# Altium footprint library WLCSP$81N0.40P9X9_4.4X3.8X0.6-81_81.PcbLib: 1 footprints
Each footprint in its own frame and in the unit in brackets; x right, y up, seen from the top. Pads: shape width x height; smd on the part's side, far side on the other; paste and mask are expansions set on the pad; w line width, h text height; cw(c..) or ccw(c..) is an arc to the next point about the centre after c.
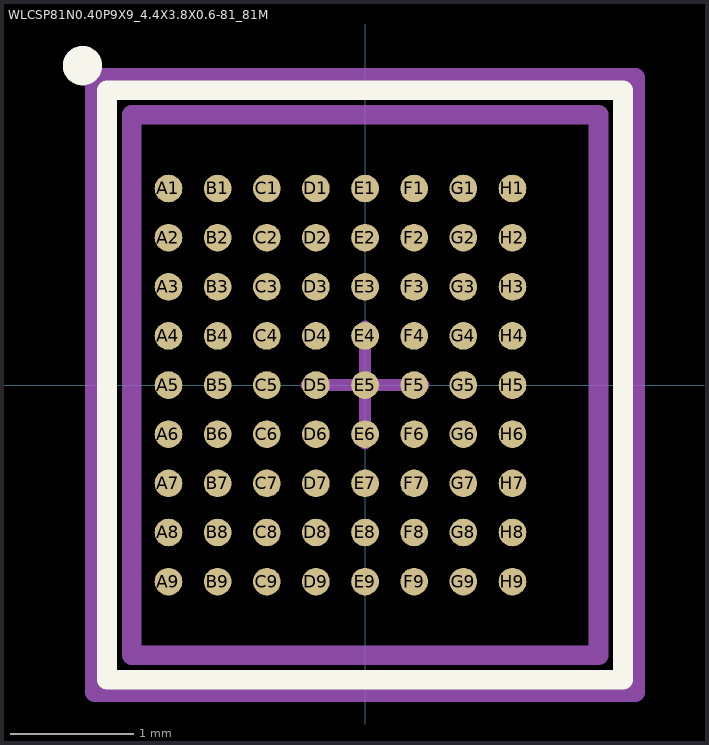
[diagram p0: the footprint, top view; thin cyan lines are the x and y axes]

## WLCSP81N0.40P9X9_4.4X3.8X0.6-81_81M [mm] "WLCSP 81 3.8x4.4x0.6 P 0.4 mm"
height 0.6
pads (72):
  round 0.225 smd: A1(-1.6,1.6) A2(-1.6,1.2) A3(-1.6,0.8) A4(-1.6,0.4) A5(-1.6,0) A6(-1.6,-0.4) A7(-1.6,-0.8) A8(-1.6,-1.2) A9(-1.6,-1.6) B1(-1.2,1.6) B2(-1.2,1.2) B3(-1.2,0.8) B4(-1.2,0.4) B5(-1.2,0) B6(-1.2,-0.4) B7(-1.2,-0.8) B8(-1.2,-1.2) B9(-1.2,-1.6) C1(-0.8,1.6) C2(-0.8,1.2) C3(-0.8,0.8) C4(-0.8,0.4) C5(-0.8,0) C6(-0.8,-0.4) C7(-0.8,-0.8) C8(-0.8,-1.2) C9(-0.8,-1.6) D1(-0.4,1.6) D2(-0.4,1.2) D3(-0.4,0.8) D4(-0.4,0.4) D5(-0.4,0) D6(-0.4,-0.4) D7(-0.4,-0.8) D8(-0.4,-1.2) D9(-0.4,-1.6) E1(0,1.6) E2(0,1.2) E3(0,0.8) E4(0,0.4) E5(0,0) E6(0,-0.4) E7(0,-0.8) E8(0,-1.2) E9(0,-1.6) F1(0.4,1.6) F2(0.4,1.2) F3(0.4,0.8) F4(0.4,0.4) F5(0.4,0) F6(0.4,-0.4) F7(0.4,-0.8) F8(0.4,-1.2) F9(0.4,-1.6) G1(0.8,1.6) G2(0.8,1.2) G3(0.8,0.8) G4(0.8,0.4) G5(0.8,0) G6(0.8,-0.4) G7(0.8,-0.8) G8(0.8,-1.2) G9(0.8,-1.6) H1(1.2,1.6) H2(1.2,1.2) H3(1.2,0.8) H4(1.2,0.4) H5(1.2,0) H6(1.2,-0.4) H7(1.2,-0.8) H8(1.2,-1.2) H9(1.2,-1.6)
Top Overlay:
  circle w0.16: c-2.3,2.6 r0.08
  lines w0.16: -2.1,-2.4 2.1,-2.4 2.1,2.4 -2.1,2.4 -2.1,-2.4
Top Component Center:
  lines w0.1: -0.475,0 0.475,0 ; 0,-0.475 0,0.475
Top Courtyard:
  lines w0.16: -2.2,-2.5 2.2,-2.5 2.2,2.5 -2.2,2.5 -2.2,-2.5
Top Assembly:
  lines w0.16: -1.9,-2.2 1.9,-2.2 1.9,2.2 -1.9,2.2 -1.9,-2.2
3D body "WLCSP81N0.40P9X9_4.4X3.8X0.6-81_81M.STEP": height 0.6, standoff 0, extent -1.9,-2.2 1.9,2.2